# Altium footprint library ZXCT1010E5TA.PcbLib: 1 footprints
Each footprint in its own frame and in the unit in brackets; x right, y up, seen from the top. Pads: shape width x height; smd on the part's side, far side on the other; paste and mask are expansions set on the pad; w line width, h text height; cw(c..) or ccw(c..) is an arc to the next point about the centre after c.
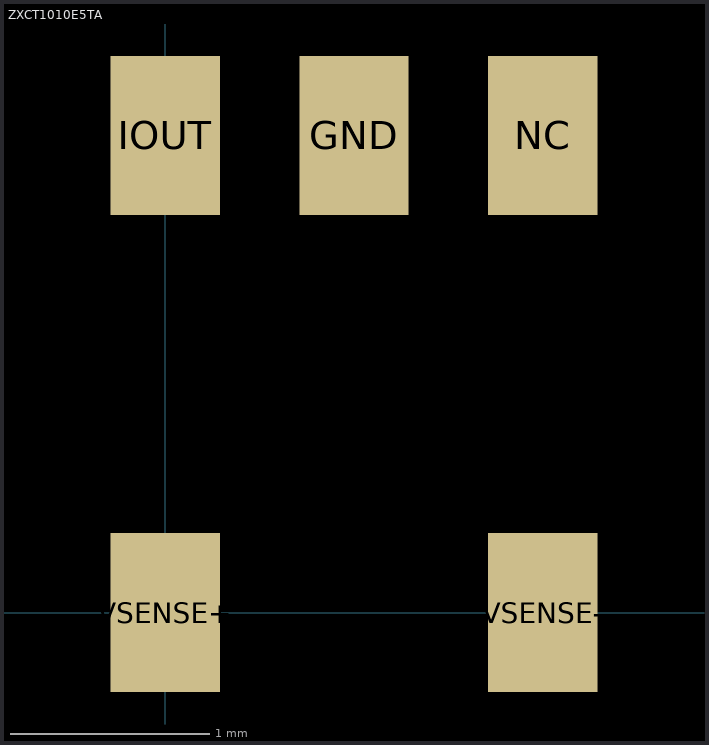
[diagram p0: the footprint, top view; thin cyan lines are the x and y axes]

## ZXCT1010E5TA [mm]
pads (5):
  rect 0.55x0.8 smd mask+0: GND(0.95,2.4) IOUT(0,2.4) NC(1.9,2.4) VSENSE+(0,0) VSENSE-(1.9,0)